# Altium schematic symbol library OEM7600.SchLib: 1 symbol
Pins are listed as number, name and electrical type; pins without a type are passive.

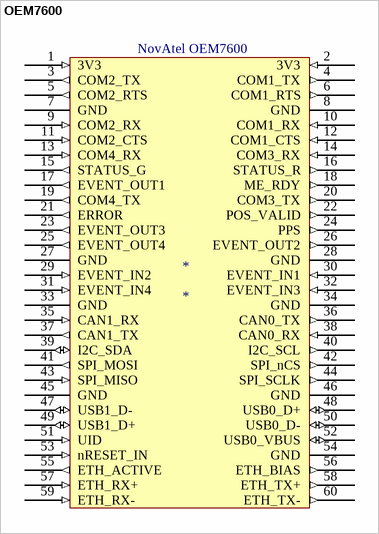
[diagram p0: symbol OEM7600]

## OEM7600
designator *
ComponentLink1Description: Connector Sheet; ComponentLink1URL: https://docs.novatel.com/OEM7/Content/Technical_Specs_Receiver/OEM7600_Interface_Connector.htm
pins: 1 3V3 (in), 2 3V3 (in), 3 COM2_TX (out), 4 COM1_TX (out), 5 COM2_RTS (out), 6 COM1_RTS (out), 7 GND, 8 GND, 9 COM2_RX (in), 10 COM1_RX (in), 11 COM2_CTS (in), 12 COM1_CTS (in), 13 COM4_RX (in), 14 COM3_RX (in), 15 STATUS_G (out), 16 STATUS_R (out), 17 EVENT_OUT1 (out), 18 ME_RDY (out), 19 COM4_TX (out), 20 COM3_TX (out), 21 ERROR (out), 22 POS_VALID (out), 23 EVENT_OUT3 (out), 24 PPS (out), 25 EVENT_OUT4 (out), 26 EVENT_OUT2 (out), 27 GND, 28 GND, 29 EVENT_IN2 (in), 30 EVENT_IN1 (in), 31 EVENT_IN4 (in), 32 EVENT_IN3 (in), 33 GND, 34 GND, 35 CAN1_RX (in), 36 CAN0_TX (out), 37 CAN1_TX (out), 38 CAN0_RX (in), 39 I2C_SDA (io), 40 I2C_SCL (out), 41 SPI_MOSI (out), 42 SPI_nCS (out), 43 SPI_MISO (in), 44 SPI_SCLK (out), 45 GND, 46 GND, 47 USB1_D- (io), 48 USB0_D+ (io), 49 USB1_D+ (io), 50 USB0_D- (io), 51 UID (in), 52 USB0_VBUS (io), 53 nRESET_IN (in), 54 GND, 55 ETH_ACTIVE (out), 56 ETH_BIAS (out), 57 ETH_RX+ (in), 58 ETH_TX+ (out), 59 ETH_RX- (in), 60 ETH_TX- (out)
text: NovAtel OEM7600